# Altium schematic symbol library LED.Schlib: 1 symbol
Pins are listed as number, name and electrical type; pins without a type are passive.

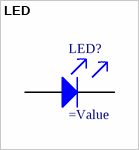
[diagram p0: symbol LED]

## LED
designator LED?
=Description
pins: 1 K, 2 A